# Altium schematic symbol library DragonFly.SchLib: 48 symbols
Pins are listed as number, name and electrical type; pins without a type are passive.

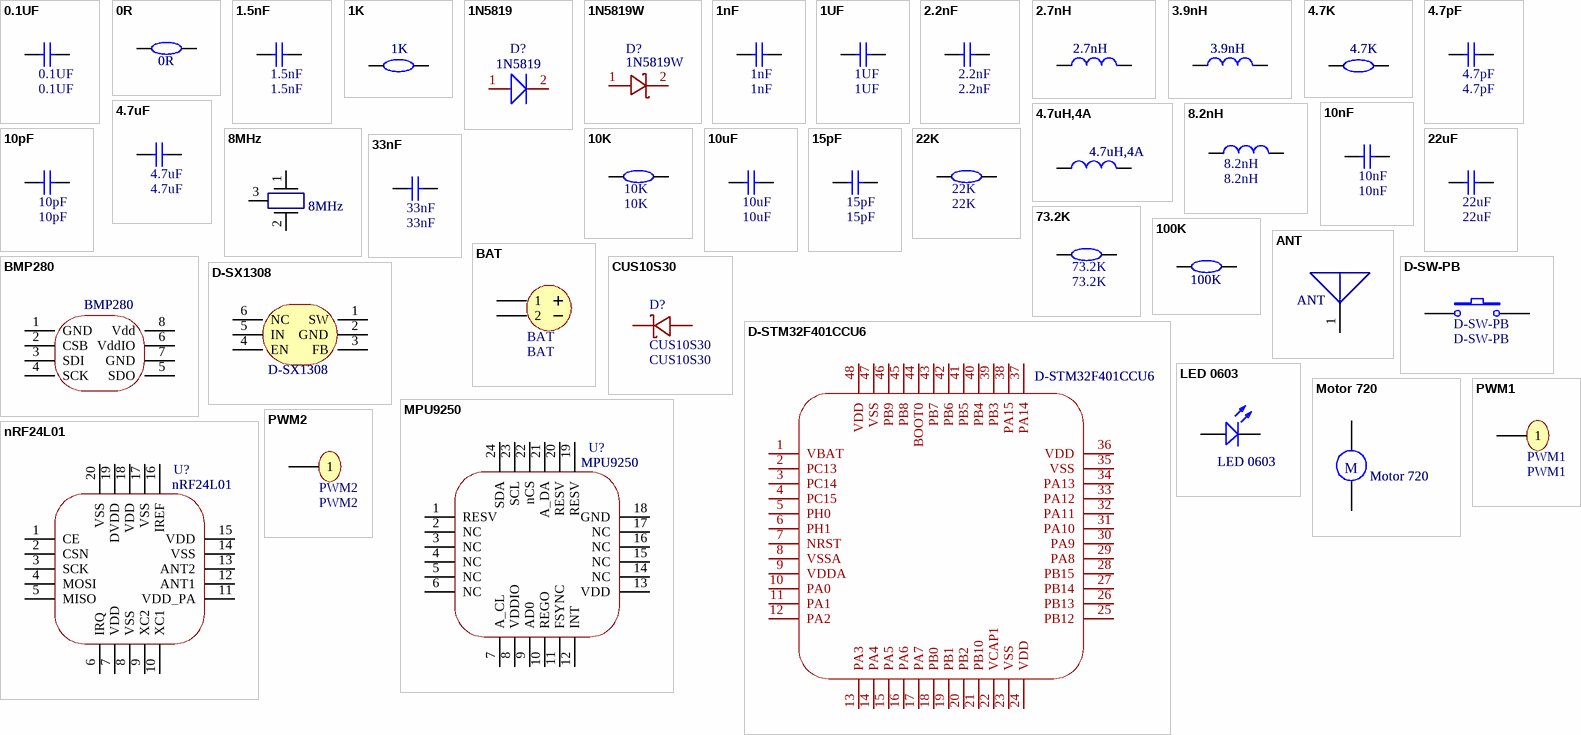
[diagram p0: symbols 0.1UF to PWM2]

## 0.1UF
designator 1?
Convert to PCB: yes; Origin Footprint: C 0402; Symbol: 0.1UF; Device: 0.1UF; Add into BOM: yes; Name: 0.1UF
pins: 1, 2

## 0R
designator 2?
Convert to PCB: yes; Origin Footprint: D-R 0603; Symbol: 0R; Device: 0R; Add into BOM: yes; Name: 0R
pins: 1, 2

## 1.5nF
designator 1?
Convert to PCB: yes; Origin Footprint: D-C 0402; Symbol: 1.5nF; Device: 1.5nF; Add into BOM: yes; Name: 1.5nF
pins: 1, 2

## 1K
designator 2?
Convert to PCB: yes; Origin Footprint: R 0402; Symbol: 1K; Device: 1K; Add into BOM: yes; Name: 1K
pins: 1, 2

## 1N5819
designator D?
Convert to PCB: yes; Origin Footprint: R-SOD 123; Symbol: 1N5819; Name: 1N5819; Device: 1N5819; Add into BOM: yes
pins: 1, 2

## 1N5819W
designator D?
Manufacturer: Shandong Jingdao Microelectronics; Convert to PCB: yes; Origin Footprint: R-SOD 123; Symbol: 1N5819W; Name: 1N5819W; Device: 1N5819W; Supplier: LCSC; Supplier Part: C169540; Manufacturer Part: 1N5819W; JLCPCB Part Class: Extend; Add into BOM: yes
pins: 1, 2

## 1nF
designator 1?
Convert to PCB: yes; Origin Footprint: D-C 0402; Symbol: 1nF; Name: 1nF; Device: 1nF; Add into BOM: yes
pins: 1, 2

## 1UF
designator 1?
Convert to PCB: yes; Origin Footprint: C 0402; Symbol: 1UF; Device: 1UF; Add into BOM: yes; Name: 1UF
pins: 1, 2

## 2.2nF
designator 1?
Convert to PCB: yes; Origin Footprint: D-C 0402; Symbol: 2.2nF; Name: 2.2nF; Device: 2.2nF; Add into BOM: yes
pins: 1, 2

## 2.7nH
designator 1?
Convert to PCB: yes; Origin Footprint: D-L0402; Symbol: 2.7nH; Name: 2.7nH; Device: 2.7nH; Add into BOM: yes
pins: 1, 2

## 3.9nH
designator 1?
Convert to PCB: yes; Origin Footprint: D-L0402; Symbol: 3.9nH; Name: 3.9nH; Device: 3.9nH; Add into BOM: yes
pins: 1, 2

## 4.7K
designator 2?
Convert to PCB: yes; Origin Footprint: R 0402; Symbol: 4.7K; Name: 4.7K; Device: 4.7K; Add into BOM: yes
pins: 1, 2

## 4.7pF
designator 1?
Convert to PCB: yes; Origin Footprint: D-C 0402; Symbol: 4.7pF; Name: 4.7pF; Device: 4.7pF; Add into BOM: yes
pins: 1, 2

## 4.7uF
designator 1?
Convert to PCB: yes; Origin Footprint: C 0402; Symbol: 4.7uF; Name: 4.7uF; Device: 4.7uF; Add into BOM: yes
pins: 1, 2

## 4.7uH,4A
designator 1?
Convert to PCB: yes; Origin Footprint: D-L1812-1; Symbol: 4.7uH,4A; Name: 4.7uH,4A; Device: 4.7uH,4A; Add into BOM: yes
pins: 1, 2

## 8.2nH
designator 1?
Convert to PCB: yes; Origin Footprint: D-L0402; Symbol: 8.2nH; Name: 8.2nH; Device: 8.2nH; Add into BOM: yes
pins: 1, 2

## 8MHz
designator 1?
Convert to PCB: yes; Origin Footprint: D-SMD-CSTSE800G52-R0; Symbol: 8MHz; Name: 8MHz; Device: 8MHz; Add into BOM: yes
pins: 1, 2, 3

## 10K
designator 2?
Convert to PCB: yes; Origin Footprint: R 0402; Symbol: 10K; Name: 10K; Device: 10K; Add into BOM: yes
pins: 1, 2

## 10nF
designator 1?
Convert to PCB: yes; Origin Footprint: D-C 0402; Symbol: 10nF; Name: 10nF; Device: 10nF; Add into BOM: yes
pins: 1, 2

## 10pF
designator 1?
Convert to PCB: yes; Origin Footprint: D-C 0402; Symbol: 10pF; Name: 10pF; Device: 10pF; Add into BOM: yes
pins: 1, 2

## 10uF
designator 1?
Convert to PCB: yes; Origin Footprint: D-C 0603; Symbol: 10uF; Name: 10uF; Device: 10uF; Add into BOM: yes
pins: 1, 2

## 15pF
designator 1?
Convert to PCB: yes; Origin Footprint: C 0402; Symbol: 15pF; Name: 15pF; Device: 15pF; Add into BOM: yes
pins: 1, 2

## 22K
designator 2?
Convert to PCB: yes; Origin Footprint: D-R 0402; Symbol: 22K; Name: 22K; Device: 22K; Add into BOM: yes
pins: 1, 2

## 22uF
designator 1?
Convert to PCB: yes; Origin Footprint: D-C 0603; Symbol: 22uF; Name: 22uF; Device: 22uF; Add into BOM: yes
pins: 1, 2

## 33nF
designator 1?
Convert to PCB: yes; Origin Footprint: D-C 0402; Symbol: 33nF; Name: 33nF; Device: 33nF; Add into BOM: yes
pins: 1, 2

## 73.2K
designator 2?
Convert to PCB: yes; Origin Footprint: R 0402; Symbol: 73.2K; Name: 73.2K; Device: 73.2K; Add into BOM: yes
pins: 1, 2

## 100K
designator 2?
Convert to PCB: yes; Origin Footprint: R 0402; Symbol: 100K; Name: 100K; Device: 100K; Add into BOM: yes
pins: 1, 2

## ANT
designator 1?
封装: R 1206; Convert to PCB: yes; Origin Footprint: D-ANT; Symbol: ANT; Name: ANT; Device: ANT; Add into BOM: yes
pins: 1

## BAT
designator 1?
Convert to PCB: yes; Origin Footprint: D-BAT; Symbol: BAT; Name: BAT; Device: BAT; Add into BOM: yes
pins: 1, 2

## BMP280
designator GND?
Convert to PCB: yes; Origin Footprint: D-LGA-2 5X2MM; Symbol: BMP280; Device: BMP280; Add into BOM: yes; Name: BMP280
pins: 1 GND, 2 CSB, 3 SDI, 4 SCK, 5 SDO, 6 VddIO, 7 GND, 8 Vdd

## CUS10S30
designator D?
Manufacturer: TOSHIBA; Manufacturer Part: CUS10S30 H3F; Convert to PCB: yes; Origin Footprint: SOD-323; Symbol: CUS10S30; Name: CUS10S30; Device: CUS10S30; Supplier: LCSC; Supplier Part: C146335; JLCPCB Part Class: Extend; Add into BOM: yes
pins: 1 K, 2 A

## D-STM32F401CCU6
designator VBAT?
Convert to PCB: yes; Origin Footprint: D-QFN48; Symbol: D-STM32F401CCU6; Name: D-STM32F401CCU6; Device: D-STM32F401CCU6; Add into BOM: yes
pins: 1 VBAT, 2 PC13, 3 PC14, 4 PC15, 5 PH0, 6 PH1, 7 NRST, 8 VSSA, 9 VDDA, 10 PA0, 11 PA1, 12 PA2, 13 PA3, 14 PA4, 15 PA5, 16 PA6, 17 PA7, 18 PB0, 19 PB1, 20 PB2, 21 PB10, 22 VCAP1, 23 VSS, 24 VDD, 25 PB12, 26 PB13, 27 PB14, 28 PB15, 29 PA8, 30 PA9, 31 PA10, 32 PA11, 33 PA12, 34 PA13, 35 VSS, 36 VDD, 37 PA14, 38 PA15, 39 PB3, 40 PB4, 41 PB5, 42 PB6, 43 PB7, 44 BOOT0, 45 PB8, 46 PB9, 47 VSS, 48 VDD

## D-SW-PB
designator 1?
Convert to PCB: yes; Origin Footprint: D-SWITCH CEWO; Symbol: D-SW-PB; Name: D-SW-PB; Device: D-SW-PB; Add into BOM: yes
pins: 1, 2

## D-SX1308
designator SW?
Convert to PCB: yes; Origin Footprint: D-SOT23-6; Symbol: D-SX1308; Name: D-SX1308; Device: D-SX1308; Add into BOM: yes
pins: 1 SW, 2 GND, 3 FB, 4 EN, 5 IN, 6 NC

## LED 0603
designator 1?
Convert to PCB: yes; Origin Footprint: D-LED-0603; Symbol: LED 0603; Device: LED 0603; Add into BOM: yes; Name: LED 0603
pins: 1, 2

## Motor 720
designator 1?
Convert to PCB: yes; Origin Footprint: D-MOTOR; Symbol: Motor 720; Name: Motor 720; Device: Motor 720; Add into BOM: yes
pins: 1, 2
text: M

## MPU9250
designator U?
Convert to PCB: yes; Origin Footprint: QFN-24 P0.40; Symbol: MPU9250; Device: MPU9250; Add into BOM: yes; Name: MPU9250
pins: 1 RESV, 2 NC, 3 NC, 4 NC, 5 NC, 6 NC, 7 A_CL, 8 VDDIO, 9 AD0, 10 REGO, 11 FSYNC, 12 INT, 13 VDD, 14 NC, 15 NC, 16 NC, 17 NC, 18 GND, 19 RESV, 20 RESV, 21 A_DA, 22 nCS, 23 SCL, 24 SDA

## nRF24L01
designator U?
Convert to PCB: yes; Origin Footprint: D-QFN20; Symbol: nRF24L01; Name: nRF24L01; Device: nRF24L01; Add into BOM: yes
pins: 1 CE, 2 CSN, 3 SCK, 4 MOSI, 5 MISO, 6 IRQ, 7 VDD, 8 VSS, 9 XC2, 10 XC1, 11 VDD_PA, 12 ANT1, 13 ANT2, 14 VSS, 15 VDD, 16 IREF, 17 VSS, 18 VDD, 19 DVDD, 20 VSS

## PWM1
designator 1?
Convert to PCB: yes; Origin Footprint: D-HDR1X1; Symbol: PWM1; Name: PWM1; Device: PWM1; Add into BOM: yes
pins: 1

## PWM2
designator 1?
Convert to PCB: yes; Origin Footprint: D-HDR1X1; Symbol: PWM2; Name: PWM2; Device: PWM2; Add into BOM: yes
pins: 1

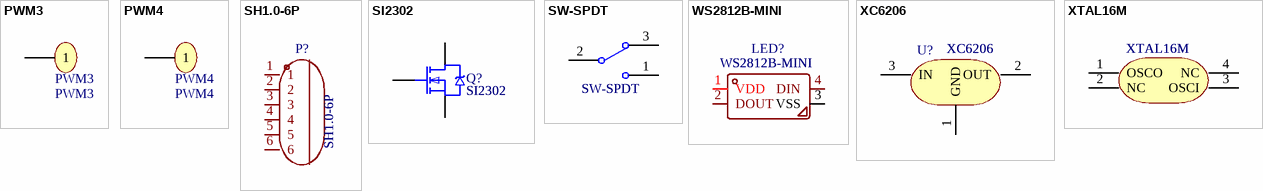
[diagram p1: symbols PWM3 to XTAL16M]

## PWM3
designator 1?
Convert to PCB: yes; Origin Footprint: D-HDR1X1; Symbol: PWM3; Name: PWM3; Device: PWM3; Add into BOM: yes
pins: 1

## PWM4
designator 1?
Convert to PCB: yes; Origin Footprint: D-HDR1X1; Symbol: PWM4; Name: PWM4; Device: PWM4; Add into BOM: yes
pins: 1

## SH1.0-6P
designator P?
Manufacturer: JS(钜硕电子); Manufacturer Part: AFC10-S06QCA-00; Convert to PCB: yes; Origin Footprint: CONN-SMD SH1.0-6P; Symbol: SH1.0-6P; Name: SH1.0-6P; Device: SH1.0-6P; Supplier: LCSC; Supplier Part: C2764185; JLCPCB Part Class: Extended Part; Add into BOM: yes
pins: 1, 2, 3, 4, 5, 6

## SI2302
designator Q?
Convert to PCB: yes; Origin Footprint: SOT-23-3; Symbol: SI2302; Name: SI2302; Device: SI2302; Published: 8-August-2017; PackageReference: SOT23-3; Publisher: mazhongwei; Add into BOM: yes
pins: 1 G, 2 S, 3 D

## SW-SPDT
designator 2?
Convert to PCB: yes; Origin Footprint: D-SWITCH PWR; Symbol: SW-SPDT; Name: SW-SPDT; Device: SW-SPDT; Add into BOM: yes
pins: 1, 2, 3

## WS2812B-MINI
designator LED?
Manufacturer: Worldsemi; Convert to PCB: yes; Symbol: WS2812B-MINI; Device: WS2812B-MINI; Supplier: LCSC; Manufacturer Part: WS2812B-MINI; Supplier Part: C473063; Add into BOM: yes; Origin Footprint: WS2812B- MINI; Name: WS2812B-MINI
pins: 1 VDD, 2 DOUT, 3 VSS, 4 DIN

## XC6206
designator U?
Convert to PCB: yes; Origin Footprint: SOT-23-3; Symbol: XC6206; Name: XC6206; Device: XC6206; Add into BOM: yes
pins: 1 GND, 2 OUT, 3 IN

## XTAL16M
designator OSCO?
Convert to PCB: yes; Origin Footprint: D-SMD-3225 4P; Symbol: XTAL16M; Name: XTAL16M; Device: XTAL16M; Add into BOM: yes
pins: 1 OSCO, 2 NC, 3 OSCI, 4 NC